# Altium footprint library INF-PG-TO263-7-1L.PcbLib: 1 footprints
Each footprint in its own frame and in the unit in brackets; x right, y up, seen from the top. Pads: shape width x height; smd on the part's side, far side on the other; paste and mask are expansions set on the pad; w line width, h text height; cw(c..) or ccw(c..) is an arc to the next point about the centre after c.
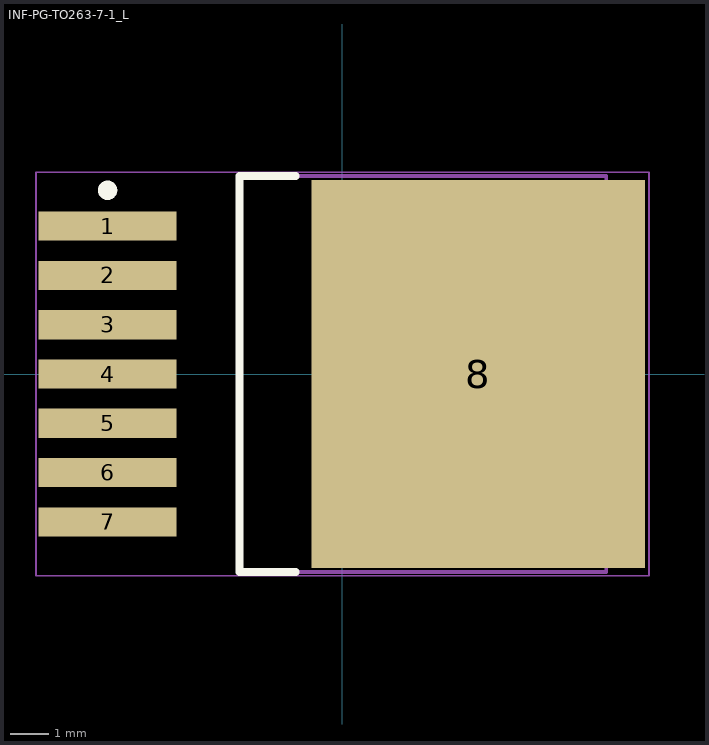
[diagram p0: the footprint, top view; thin cyan lines are the x and y axes]

## INF-PG-TO263-7-1_L [mm] "DPAK, 8-Leads, Body 10x9.25mm, Pitch 1.27mm, IPC High Density"
height 4.4
pads (8):
  rect 3.55x0.75 smd: 1(-6.05,3.81) 2(-6.05,2.54) 3(-6.05,1.27) 4(-6.05,0) 5(-6.05,-1.27) 6(-6.05,-2.54) 7(-6.05,-3.81)
  rect 8.6x10 smd: 8(3.5,0)
Top Overlay:
  circle w0.25: c-6.05,4.735 r0.125
  lines w0.2: -1.2,-5.1 -2.65,-5.1 -2.65,5.1 -1.2,5.1
Mechanical 13:
  lines w0.1: -2.65,-5.1 6.8,-5.1 6.8,5.1 -2.65,5.1 -2.65,-5.1
Mechanical 15:
  lines w0.05: -7.9,-5.2 7.9,-5.2 7.9,5.2 -7.9,5.2 -7.9,-5.2
  lines w0.1: -0.5,0 0.5,0 ; 0,-0.5 0,0.5
3D body: height 4.4, standoff 0.1, extent -2.65,-5.1 6.8,5.1